# Altium schematic symbol library Fiducial.Schlib: 1 symbol
Pins are listed as number, name and electrical type; pins without a type are passive.

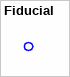
[diagram p0: symbol Fiducial]

## Fiducial
designator F?  (value not drawn)  (no BOM)
footprint Fiducial (1mm Fiducial for tack)